# Altium schematic symbol library DRV8833PWP.SchLib: 2 symbols
Pins are listed as number, name and electrical type; pins without a type are passive.

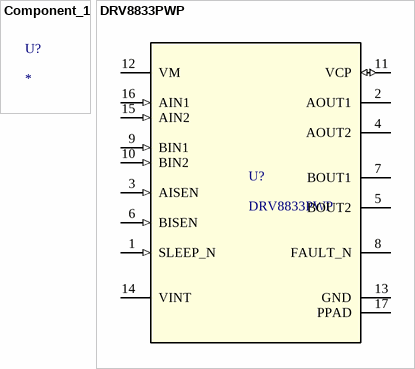
[diagram p0: symbols Component_1 to DRV8833PWP]

## Component_1
designator U?
Value: *; HelpURL: *; MPN: *; Supplier: *; SupplierPartNumber: *

## DRV8833PWP
designator U?
No Description Available; Mfr_Name: Texas Instruments; Type: DEV; RefDes: RefDes; Copyright: Copyright (C) 2023 Ultra Librarian. All rights reserved.; Manufacturer_Part_Number: DRV8833PWP
footprint PWP0016C_N
pins: 1 SLEEP_N (in), 2 AOUT1 (hiz), 3 AISEN (in), 4 AOUT2 (hiz), 5 BOUT2 (hiz), 6 BISEN (in), 7 BOUT1 (hiz), 8 FAULT_N (oc), 9 BIN1 (in), 10 BIN2 (in), 11 VCP (io), 12 VM (power), 13 GND (power), 14 VINT, 15 AIN2 (in), 16 AIN1 (in), 17 PPAD (power)